# Altium schematic symbol library Schlib1.SchLib: 2 symbols
Pins are listed as number, name and electrical type; pins without a type are passive.

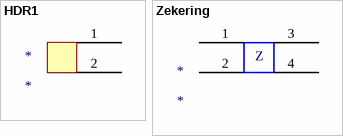
[diagram p0: symbols HDR1 to Zekering]

## HDR1
designator *
pins: 1 8, 2

## Zekering
designator *
pins: 1 3, 2 4, 3 5, 4 6
text: Z